# EAGLE library part DEP09P365TXLF (library con-amphenol)
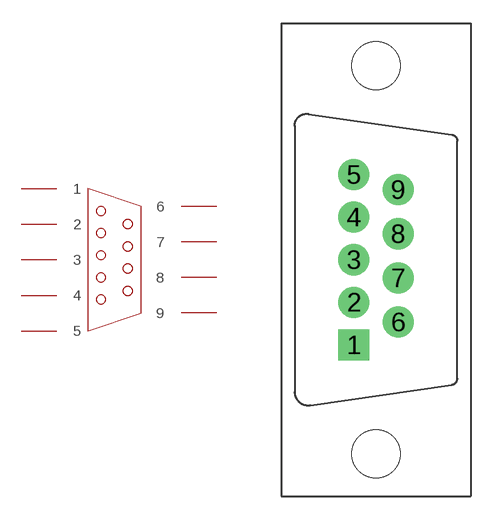
[diagram p12: symbol with the pads of DEP09P365TXLF; footprint DEP09P365TXLF]

Designator prefix J

## DEP09P365TXLF  [DEP09P365TXLF]
1  1
2  2
3  3
4  4
5  5
6  6
7  7
8  8
9  9

## Footprint DEP09P365TXLF (pad centres in mm)
drill 0.9 pad 2 square: 1 -1.42,-5.48
drill 0.9 pad 2: 2 -1.42,-2.74; 3 -1.42,0; 4 -1.42,2.74; 5 -1.42,5.48; 6 1.42,-4.01; 7 1.42,-1.17; 8 1.42,1.67; 9 1.42,4.51
hole 3.1 at 0,12.495
hole 3.1 at 0,-12.495